# EAGLE library part LS1201 (library button)
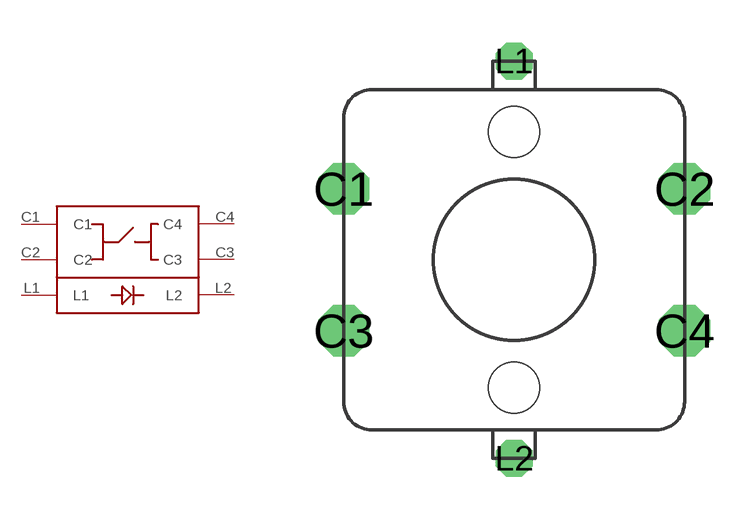
[diagram p0: symbol with the pads of LS1201; footprint LS1201]

Designator prefix -

## LS1201  [LS1201]
C1  C1
C2  C2
C3  C3
C4  C4
L1  L1
L2  L2

## Footprint LS1201 (pad centres in mm)
drill 1.2 octagon: C1 0,5; C2 12,5; C3 0,0; C4 12,0
drill 0.8 octagon: L1 6,9.5; L2 6,-4.5
hole 1.8 at 6,-2
hole 1.8 at 6,7